# EAGLE library part TLC5920 (library launchpad_bp)
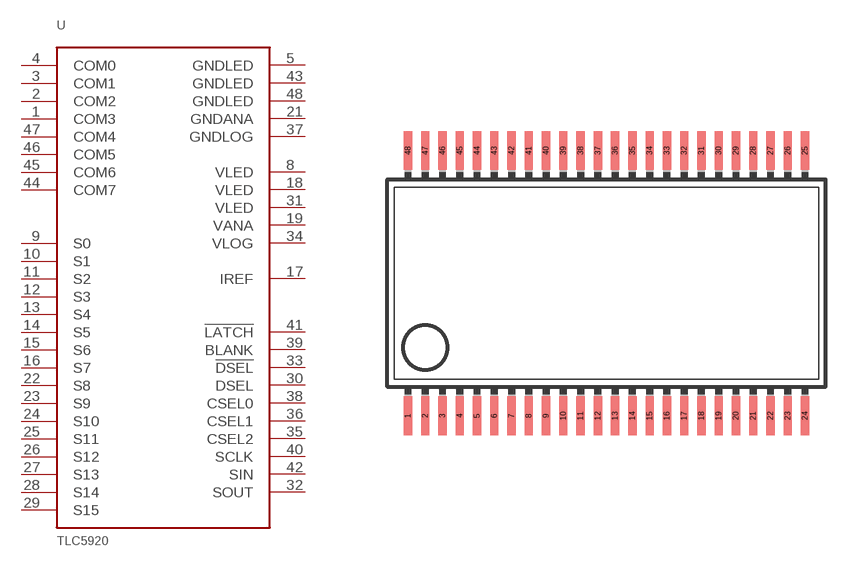
[diagram p7: symbol with the pads of SSOP48DL; footprint SSOP48DL]

Designator prefix -

## TLC5920  [SSOP48DL]
1  COM3  pas
2  COM2  pas
3  COM1  pas
4  COM0  pas
5  GNDLED  pwr
8  VLED  pwr
9  S0  pas
10  S1  pas
11  S2  pas
12  S3  pas
13  S4  pas
14  S5  pas
15  S6  pas
16  S7  pas
17  IREF  pwr
18  VLED  pwr
19  VANA  pwr
21  GNDANA  pwr
22  S8  pas
23  S9  pas
24  S10  pas
25  S11  pas
26  S12  pas
27  S13  pas
28  S14  pas
29  S15  pas
30  DSEL  in
31  VLED  pwr
32  SOUT  out
33  !DSEL  in
34  VLOG  pwr
35  CSEL2  in
36  CSEL1  in
37  GNDLOG  pwr
38  CSEL0  in
39  BLANK  in
40  SCLK  in
41  !LATCH  in
42  SIN  in
43  GNDLED  pwr
44  COM7  pas
45  COM6  pas
46  COM5  pas
47  COM4  pas
48  GNDLED  pwr

## Footprint SSOP48DL (pad centres in mm)
Shrink Small Outline Package
smd 0.305 x 1.422: 1 -6.985,-4.877; 2 -6.35,-4.877; 3 -5.715,-4.877; 4 -5.08,-4.877; 5 -4.445,-4.877; 6 -3.81,-4.877; 7 -3.175,-4.877; 8 -2.54,-4.877; 9 -1.905,-4.877; 10 -1.27,-4.877; 11 -0.635,-4.877; 12 0,-4.877; 13 0.635,-4.877; 14 1.27,-4.877; 15 1.905,-4.877; 16 2.54,-4.877; 17 3.175,-4.877; 18 3.81,-4.877; 19 4.445,-4.877; 20 5.08,-4.877; 21 5.715,-4.877; 22 6.35,-4.877; 23 6.985,-4.877; 24 7.62,-4.877; 25 7.62,4.877; 26 6.985,4.877; 27 6.35,4.877; 28 5.715,4.877; 29 5.08,4.877; 30 4.445,4.877; 31 3.81,4.877; 32 3.175,4.877; 33 2.54,4.877; 34 1.905,4.877; 35 1.27,4.877; 36 0.635,4.877; 37 0,4.877; 38 -0.635,4.877; 39 -1.27,4.877; 40 -1.905,4.877; 41 -2.54,4.877; 42 -3.175,4.877; 43 -3.81,4.877; 44 -4.445,4.877; 45 -5.08,4.877; 46 -5.715,4.877; 47 -6.35,4.877; 48 -6.985,4.877